# EAGLE library part TEN15_DC/DC (library mbed-microcontroller)
Traco TEN15-2412wi 15 Watt DC/DC 9-36V Input
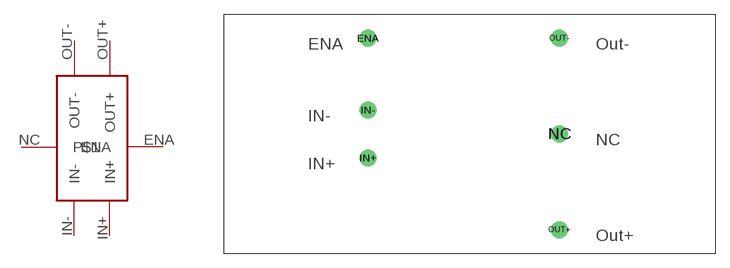
[diagram p7: symbol with the pads of TEN15_DC/DC; footprint TEN15_DC/DC]

Designator prefix -

## TEN15_DC/DC  [TEN15_DC/DC]
ENA  ENA  in
IN+  IN+  in
IN-  IN-  in
NC  P$1  nc
OUT+  OUT+  out
OUT-  OUT-  out

## Footprint TEN15_DC/DC (pad centres in mm)
drill 1.2 pad 1.778: ENA -10.16,10.16; IN+ -10.16,-2.54; IN- -10.16,2.54; NC 10.16,0; OUT+ 10.16,-10.16; OUT- 10.16,10.16